# EAGLE library part BH1715FVC (library wicked-device)
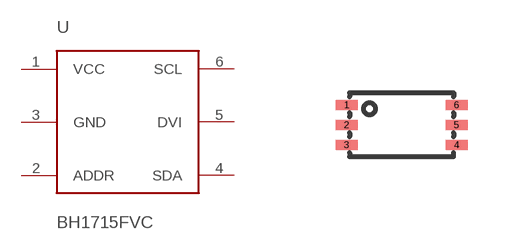
[diagram p15: symbol with the pads of WSOF6; footprint WSOF6]

Designator prefix -

## BH1715FVC  [WSOF6]
1  VCC  sup
2  ADDR
3  GND  sup
4  SDA
5  DVI
6  SCL

## Footprint WSOF6 (pad centres in mm)
smd 0.55 x 0.25: 1 -1.375,0.5; 2 -1.375,0; 3 -1.375,-0.5; 4 1.375,-0.5; 5 1.375,0; 6 1.375,0.5